# EAGLE library part LTC6910-3CTS8TRMPBF (library Oscilloscope Component Library)
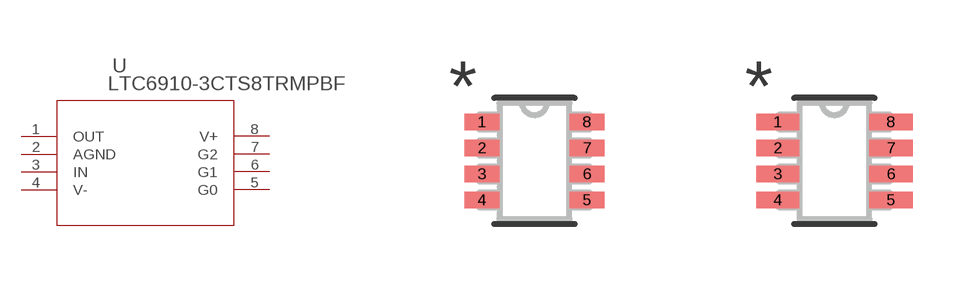
[diagram p2: symbol with the pads of TSOT-23_TS8_LIT; footprints TSOT-23_TS8_LIT, LTC6910-4-TSOT-23-M]

Designator prefix U

## LTC6910-3CTS8TRMPBFTSOT-23_TS8_LIT (COPYRIGHT: Copyright (C) 2023 Ultra Librarian. All rights reserved.; MANUFACTURER_PART_NUMBER: LTC6910-3CTS8#TRMPBF; MFR_NAME: Analog Devices Inc)  [TSOT-23_TS8_LIT]
1  OUT  out
2  AGND  pwr
3  IN  in
4  V-  pwr
5  G0  in
6  G1  in
7  G2  in
8  V+  pwr

## LTC6910-3CTS8TRMPBFTSOT-23_TS8_LIT-M (COPYRIGHT: Copyright (C) 2023 Ultra Librarian. All rights reserved.; MANUFACTURER_PART_NUMBER: LTC6910-3CTS8#TRMPBF; MFR_NAME: Analog Devices Inc)  [LTC6910-4-TSOT-23-M]
Pads as for TSOT-23_TS8_LIT

## LTC6910-3CTS8TRMPBFTSOT-23_TS8_LIT-L (COPYRIGHT: Copyright (C) 2023 Ultra Librarian. All rights reserved.; MANUFACTURER_PART_NUMBER: LTC6910-3CTS8#TRMPBF; MFR_NAME: Analog Devices Inc)  [LTC6910-4-TSOT-23-L]
Pads as for TSOT-23_TS8_LIT

## Footprint TSOT-23_TS8_LIT (pad centres in mm)
smd 0.876 x 0.406: 1 -1.314,0.975; 2 -1.314,0.325; 3 -1.314,-0.325; 4 -1.314,-0.975; 5 1.314,-0.975; 6 1.314,-0.325; 7 1.314,0.325; 8 1.314,0.975

## Footprint LTC6910-4-TSOT-23-M (pad centres in mm)
smd 1.079 x 0.406: 1 -1.416,0.975; 2 -1.416,0.325; 3 -1.416,-0.325; 4 -1.416,-0.975; 5 1.416,-0.975; 6 1.416,-0.325; 7 1.416,0.325; 8 1.416,0.975

## Footprint LTC6910-4-TSOT-23-L (pad centres in mm)
smd 0.673 x 0.356: 1 -1.213,0.975; 2 -1.213,0.325; 3 -1.213,-0.325; 4 -1.213,-0.975; 5 1.213,-0.975; 6 1.213,-0.325; 7 1.213,0.325; 8 1.213,0.975